# Altium footprint library cy.PcbLib: 99 footprints (part 4 of 7)
Each footprint in its own frame and in the unit in brackets; x right, y up, seen from the top. Pads: shape width x height; smd on the part's side, far side on the other; paste and mask are expansions set on the pad; w line width, h text height; cw(c..) or ccw(c..) is an arc to the next point about the centre after c.
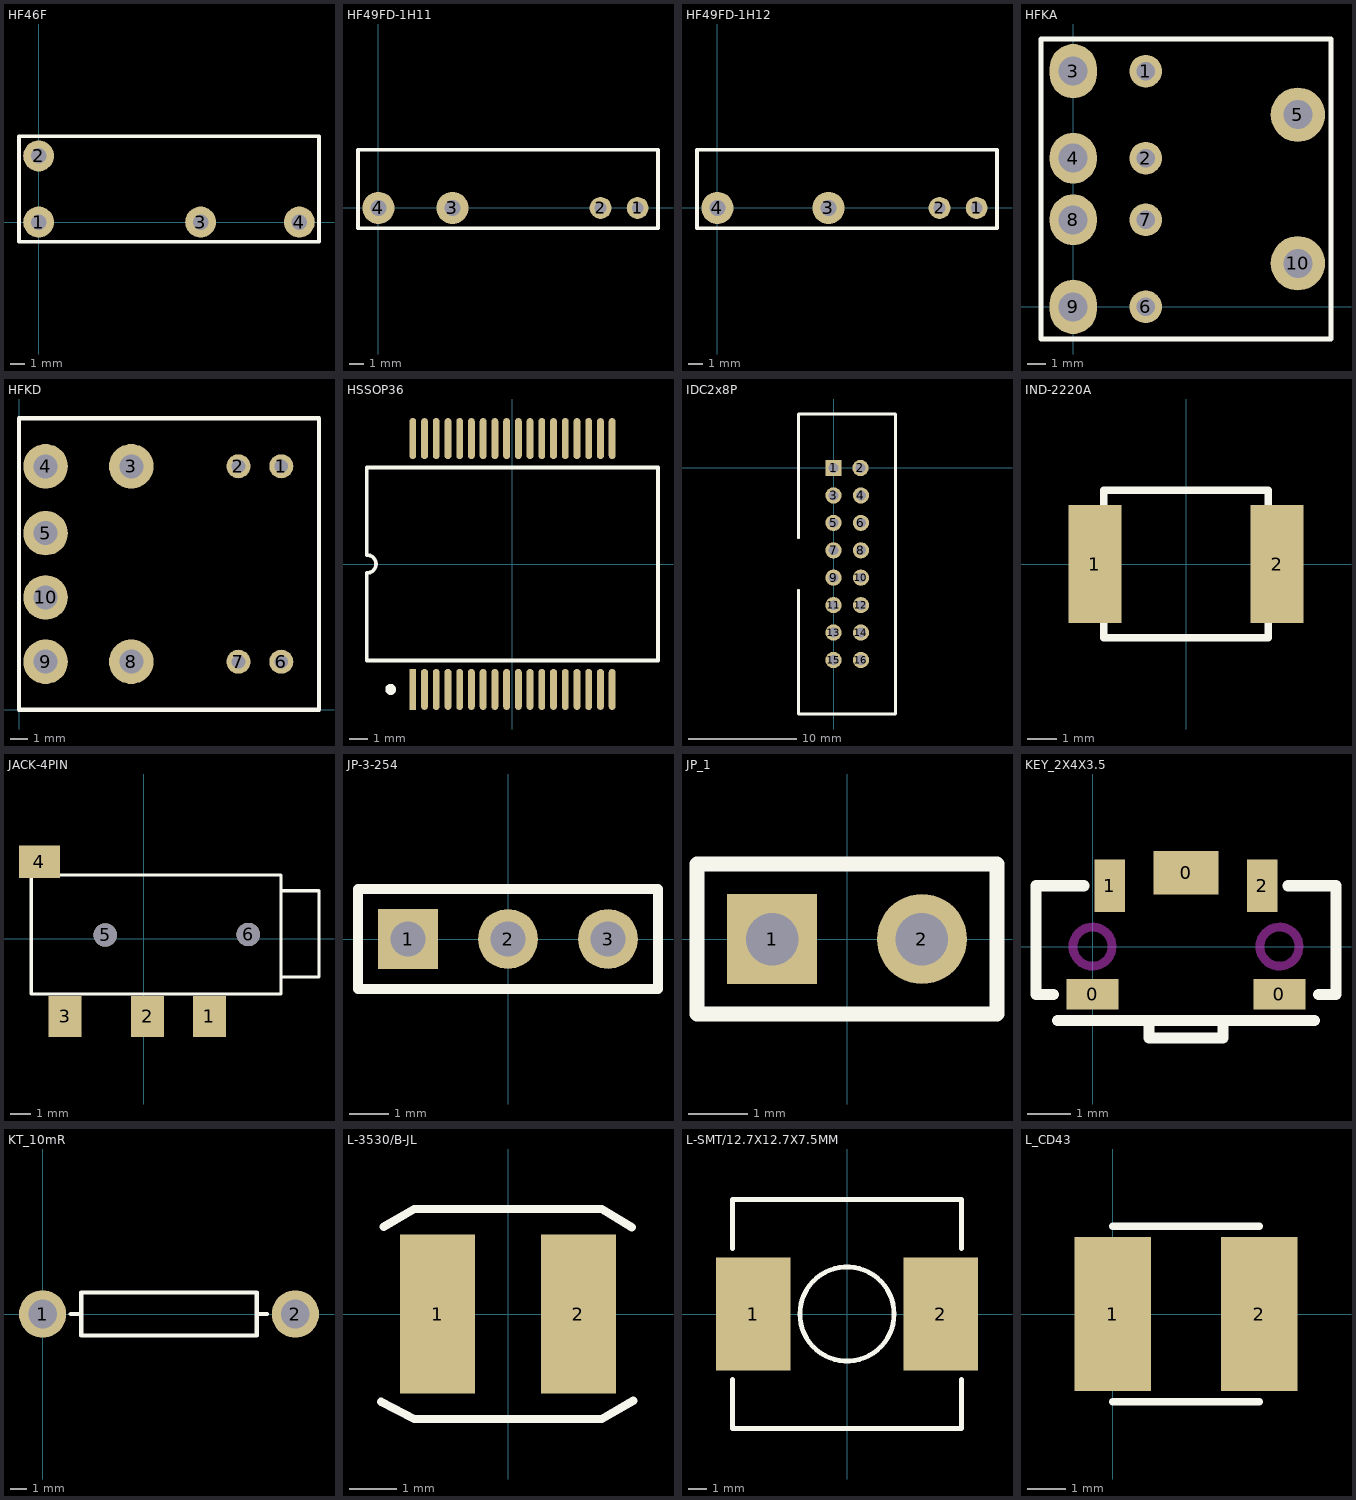
[diagram p3: the footprints below, top view; thin cyan lines are the x and y axes]

## HF46F [mm]
pads (4):
  round 2.2 hole 1.1: 1(0,0) 2(0,4.7) 3(11.5,0) 4(18.5,0)
Top Overlay:
  lines w0.254: -1.4,-1.4 19.9,-1.4 19.9,6.1 -1.4,6.1 -1.4,-1.4

## HF49FD-1H11 [mm]
pads (4):
  round 1.5 hole 0.8: 1(17.78,0) 2(15.24,0)
  round 2.2 hole 1.1: 3(5.08,0) 4(0,0)
Top Overlay:
  lines w0.254: -1.4,-1.4 19.18,-1.4 19.18,4 -1.4,4 -1.4,-1.4

## HF49FD-1H12 [mm]
pads (4):
  round 1.5 hole 0.8: 1(17.78,0) 2(15.24,0)
  round 2.2 hole 1.1: 3(7.62,0) 4(0,0)
Top Overlay:
  lines w0.254: -1.4,-1.4 19.18,-1.4 19.18,4 -1.4,4 -1.4,-1.4

## HFKA [mm]
pads (10):
  round 1.8 hole 1: 1(4,13) 2(4,8.2) 6(4,0) 7(4,4.8)
  oval 2.6x3 hole 1.6: 3(0,13) 9(0,0)
  oval 2.6x2.8 hole 1.6: 4(0,8.2) 8(0,4.8)
  round 3 hole 1.6: 5(12.4,10.6) 10(12.4,2.4)
Top Overlay:
  lines w0.254: -1.778,14.732 -1.778,-1.778 14.224,-1.778 14.224,14.732 ; -1.778,14.778 14.224,14.778

## HFKD [mm]
pads (10):
  round 1.4 hole 0.8: 1(15.3,14.2) 2(12.8,14.2) 6(15.3,2.8) 7(12.8,2.8)
  round 2.6 hole 1.4: 3(6.55,14.2) 4(1.55,14.2) 5(1.55,10.3) 8(6.55,2.8) 9(1.55,2.8) 10(1.55,6.55)
Top Overlay:
  lines w0.254: 15.3,0 17.5,0 ; 15.3,17 17.5,17 ; 17.5,0 17.5,17 ; 17.5,0 0,0 0,17 17.5,17

## HSSOP36 [mm]
pads (36):
  rect 0.38x2.28 smd: 1(-5.525,-6.95)
  oval 0.38x2.28 smd: 2(-4.875,-6.95) 3(-4.225,-6.95) 4(-3.575,-6.95) 5(-2.925,-6.95) 6(-2.275,-6.95) 7(-1.625,-6.95) 8(-0.975,-6.95) 9(-0.325,-6.95) 10(0.325,-6.95) 11(0.975,-6.95) 12(1.625,-6.95) 13(2.275,-6.95) 14(2.925,-6.95) 15(3.575,-6.95) 16(4.225,-6.95) 17(4.875,-6.95) 18(5.525,-6.95) 19(5.525,6.95) 20(4.875,6.95) 21(4.225,6.95) 22(3.575,6.95) 23(2.925,6.95) 24(2.275,6.95) 25(1.625,6.95) 26(0.975,6.95) 27(0.325,6.95) 28(-0.325,6.95) 29(-0.975,6.95) 30(-1.625,6.95) 31(-2.275,6.95) 32(-2.925,6.95) 33(-3.575,6.95) 34(-4.225,6.95) 35(-4.875,6.95) 36(-5.525,6.95)
Top Overlay:
  circle w0.3: c-6.75,-6.95 r0.15
  lines w0.2: -8.065,-0.5 -8.065,-5.35 8.065,-5.35 8.065,5.35 -8.065,5.35 -8.065,0.5 ; -8.06,-0.5 ccw(c-8.06,0) -8.06,0.5

## IDC2x8P [mm]
pads (16):
  rect 1.5x1.5 hole 0.9: 1(0,0)
  round 1.5 hole 0.9: 2(2.5,0) 3(0,-2.54) 4(2.54,-2.54) 5(0,-5.08) 6(2.54,-5.08) 7(0,-7.62) 8(2.54,-7.62) 9(0,-10.16) 10(2.54,-10.16) 11(0,-12.7) 12(2.54,-12.7) 13(0,-15.24) 14(2.54,-15.24) 15(0,-17.78) 16(2.54,-17.78)
Top Overlay:
  lines w0.254: -3.25,-11.328 -3.25,-22.78 5.75,-22.78 5.75,5 -3.25,5 -3.25,-6.452

## IND-2220A [mm]
pads (2):
  rect 1.8x4 smd: 1(-3.1,0) 2(3.1,0)
Top Overlay:
  lines w0.254: -2.8,-2.5 -2.8,2.5 2.8,2.5 2.8,-2.5 -2.8,-2.5

## JACK-4PIN [mm]
pads (6):
  rect 1.6x2 smd: 1(3.201,-3.776) 2(0.177,-3.776) 3(-3.849,-3.776)
  rect 2x1.6 smd: 4(-5.097,3.773)
  round 1.143 hole 1.143: 5(-1.892,0.194) 6(5.093,0.219)
Top Overlay:
  lines w0.15: 6.719,-1.856 8.548,-1.856 8.548,2.353 6.719,2.353 ; -5.499,-2.676 -5.499,3.124 6.701,3.124 6.701,-2.677 -5.499,-2.676

## JP-3-254 [mil]
pads (3):
  rect 60x60 hole 35: 1(-100,0)
  round 60 hole 35: 2(0,0) 3(100,0)
Top Overlay:
  lines w10: -150,-50 150,-50 150,50 -150,50 -150,-50

## JP_1 [mil]
pads (2):
  rect 60x60 hole 35: 1(-50,0)
  round 60 hole 35: 2(50,0)
Top Overlay:
  lines w10: -100,-50 100,-50 100,50 -100,50 -100,-50

## KEY_2X4X3.5 [mm]
pads (5):
  rect 1.2x0.7 smd: 0(0,-1.1) 0(4.3,-1.1)
  rect 1.5x1 smd: 0(2.15,1.7)
  rect 0.7x1.2 smd: 1(0.4,1.4) 2(3.9,1.4)
Top Overlay:
  lines w0.254: -0.9,-1.1 -1.3,-1.1 -1.3,1.4 -1,1.4 -0.2,1.4 ; -0.8,-1.7 5.1,-1.7 ; 1.3,-1.7 1.3,-2.1 3,-2.1 3,-1.7 ; 4.5,1.4 5.3,1.4 5.6,1.4 5.6,-1.1 5.2,-1.1
Keep-Out Layer:
  circle w0.203: c0,0 r0.45
  circle w0.203: c0,0 r0.45
  circle w0.203: c4.3,0 r0.45

## KT_10mR [mm]
pads (2):
  round 2.8 hole 1.7: 1(0,0) 2(15,0)
Top Overlay:
  lines w0.254: 1.676,0 2.286,0 1.93,0 ; 12.7,0 13.31,0 ; 2.286,-1.27 12.7,-1.27 12.7,1.27 2.286,1.27 2.286,-1.27

## L-3530/B-JL [mm]
height 3
pads (2):
  rect 1.6x3.4 smd: 1(-1.5,0) 2(1.5,0)
Top Overlay:
  lines w0.178: -2.71,-1.87 -2,-2.24 2,-2.24 2.67,-1.85 ; -2.65,1.86 -2,2.24 2,2.24 2.64,1.85

## L-SMT/12.7X12.7X7.5MM [mm]
height 4.9
pads (2):
  rect 4x6 smd: 1(-5,0) 2(5,0)
Top Overlay:
  circle w0.254: c0,0 r2.512
  lines w0.254: -6.1,-3.5 -6.1,-6.1 6.1,-6.1 6.1,-3.5 ; -6.1,3.5 -6.1,6.1 6.1,6.1 6.1,3.5

## L_CD43 [mm]
pads (2):
  rect 2x4 smd: 1(0,0) 2(3.81,0)
Top Overlay:
  lines w0.203: 0,-2.286 3.81,-2.286 ; 0,2.286 3.81,2.286